# EAGLE library part SENSOR_BOARD_LPS25H (library sensors)
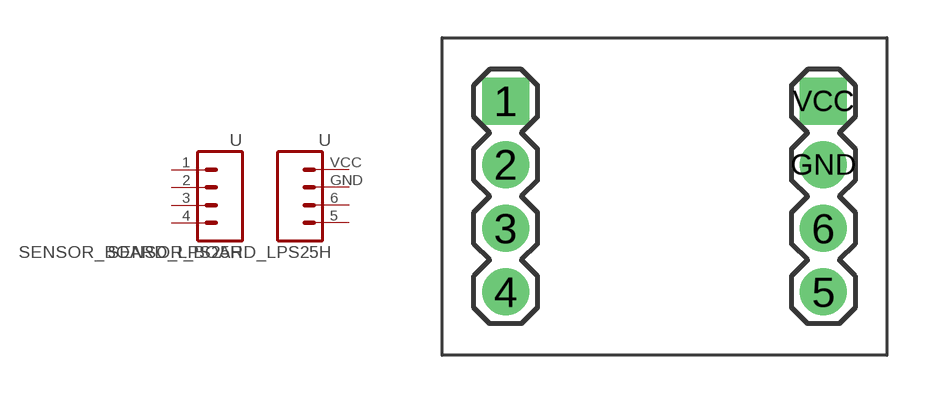
[diagram p6: symbol with the pads of SENSOR_BOARD_GEN; footprint SENSOR_BOARD_GEN]

Designator prefix -

## SENSOR_BOARD_LPS25H  [SENSOR_BOARD_GEN]
1  1  pas
2  SDA  pas
3  SCL  pas
4  4  pas
5  5  pas
6  INT1  pas
GND  GND  pas
VCC  VCC  pas

## Footprint SENSOR_BOARD_GEN (pad centres in mm)
drill 1.016 pad 1.88 square: 1 2.54,10.16; VCC 15.24,10.16
drill 1.016 pad 1.88: 2 2.54,7.62; 3 2.54,5.08; 4 2.54,2.54; 5 15.24,2.54; 6 15.24,5.08; GND 15.24,7.62